# EAGLE library part P8X32A-M44 (library p8x32a_11)
8-Cog Multiprocessor Microcontroller Source: http://www.parallax.com/sites/default/files/downloads/P8X32A-Propeller-Datasheet-v1.4.0_0.pdf
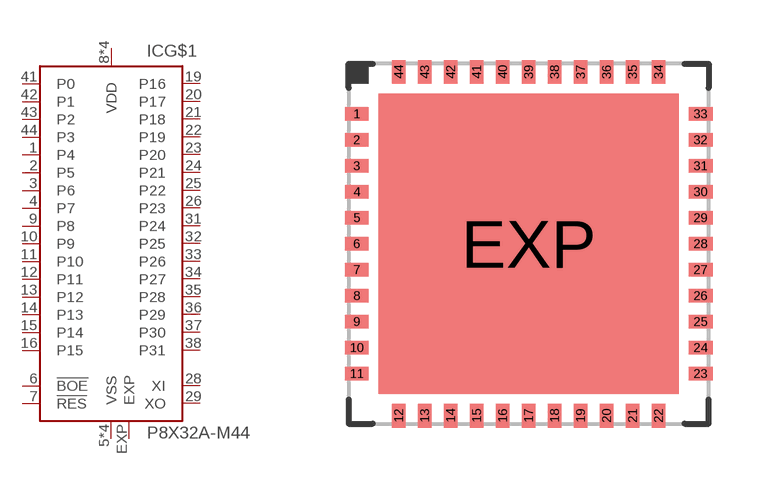
[diagram p1: symbol with the pads of QFN44-9X9; footprint QFN44-9X9]

Designator prefix IC; gates G$2=EXPOSED G$1=P8X32A

## P8X32A-M44 (MF: Parallax Semiconductor; MPN: P8X32A-M44; OC_FARNELL: unknown; OC_NEWARK: unknown)  [QFN44-9X9]
1  G$1:P4
2  G$1:P5
3  G$1:P6
4  G$1:P7
5  G$1:VSS  pwr
6  G$1:!BOE  in
7  G$1:!RES  pas
8  G$1:VDD  pwr
9  G$1:P8
10  G$1:P9
11  G$1:P10
12  G$1:P11
13  G$1:P12
14  G$1:P13
15  G$1:P14
16  G$1:P15
17  G$1:VSS  pwr
18  G$1:VDD  pwr
19  G$1:P16
20  G$1:P17
21  G$1:P18
22  G$1:P19
23  G$1:P20
24  G$1:P21
25  G$1:P22
26  G$1:P23
27  G$1:VSS  pwr
28  G$1:XI  in
29  G$1:XO  out
30  G$1:VDD  pwr
31  G$1:P24
32  G$1:P25
33  G$1:P26
34  G$1:P27
35  G$1:P28
36  G$1:P29
37  G$1:P30
38  G$1:P31
39  G$1:VSS  pwr
40  G$1:VDD  pwr
41  G$1:P0
42  G$1:P1
43  G$1:P2
44  G$1:P3
EXP  G$2:EXP  pas

## Footprint QFN44-9X9 (pad centres in mm)
44-Lead Plastic Quad Flat No Lead Package (M44) - 9x9 mm Body [QFN] Source: http://www.parallax.com/sites/default/files/downloads/P8X32A-Propeller-Datasheet-v1.4.0_0.pdf
smd 0.6 x 0.33: 1 -4.3,3.25; 2 -4.3,2.6; 3 -4.3,1.95; 4 -4.3,1.3; 5 -4.3,0.65; 6 -4.3,0; 7 -4.3,-0.65; 8 -4.3,-1.3; 9 -4.3,-1.95; 10 -4.3,-2.6; 11 -4.3,-3.25; 23 4.3,-3.25; 24 4.3,-2.6; 25 4.3,-1.95; 26 4.3,-1.3; 27 4.3,-0.65; 28 4.3,0; 29 4.3,0.65; 30 4.3,1.3; 31 4.3,1.95; 32 4.3,2.6; 33 4.3,3.25
smd 0.33 x 0.6: 12 -3.25,-4.3; 13 -2.6,-4.3; 14 -1.95,-4.3; 15 -1.3,-4.3; 16 -0.65,-4.3; 17 0,-4.3; 18 0.65,-4.3; 19 1.3,-4.3; 20 1.95,-4.3; 21 2.6,-4.3; 22 3.25,-4.3; 34 3.25,4.3; 35 2.6,4.3; 36 1.95,4.3; 37 1.3,4.3; 38 0.65,4.3; 39 0,4.3; 40 -0.65,4.3; 41 -1.3,4.3; 42 -1.95,4.3; 43 -2.6,4.3; 44 -3.25,4.3
smd 7.5 x 7.5: EXP 0,0